# Altium footprint library Reg LDO.PcbLib: 29 footprints (part 2 of 2)
Each footprint in its own frame and in the unit in brackets; x right, y up, seen from the top. Pads: shape width x height; smd on the part's side, far side on the other; paste and mask are expansions set on the pad; w line width, h text height; cw(c..) or ccw(c..) is an arc to the next point about the centre after c.
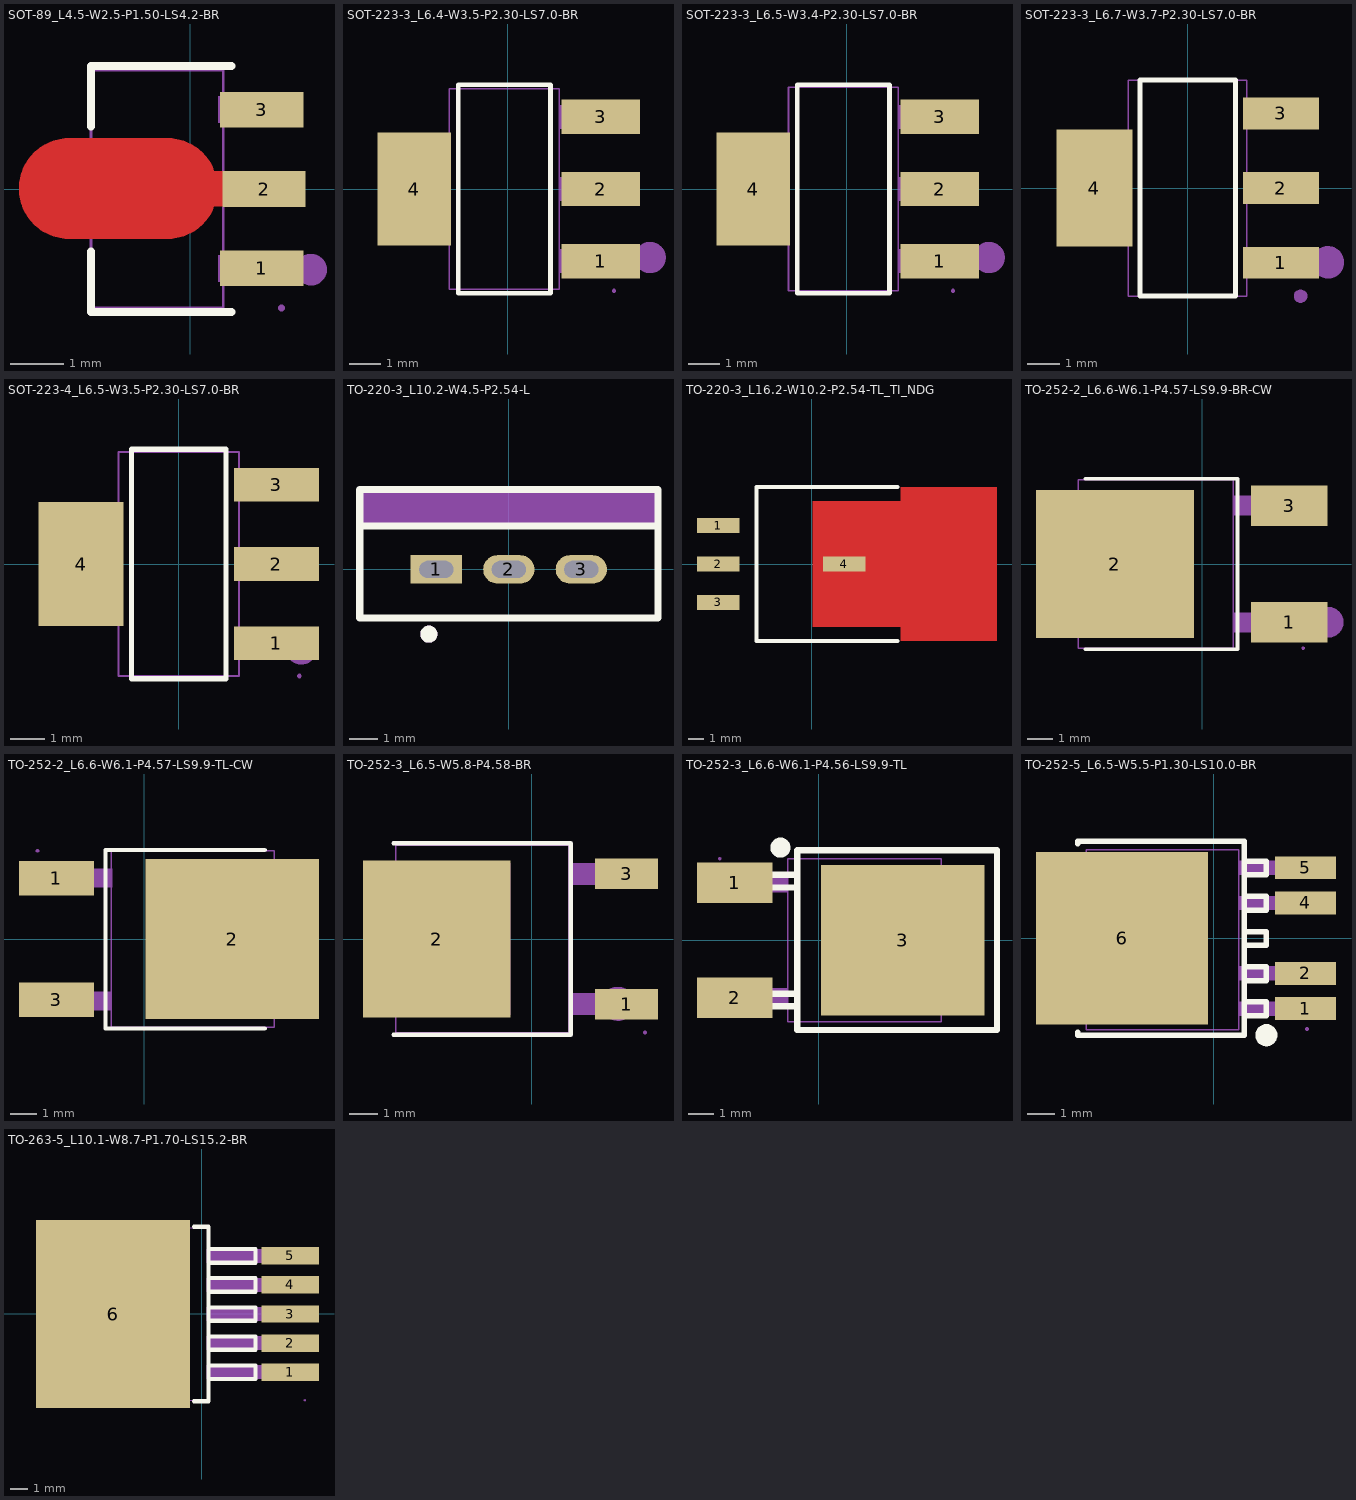
[diagram p1: the footprints below, top view; thin cyan lines are the x and y axes]

## SOT-89_L4.5-W2.5-P1.50-LS4.2-BR [mm]
pads (3):
  rect 1.575x0.672 smd paste+0 mask+0.051: 1(1.356,-1.5) 2(1.397,0) 3(1.356,1.5)
Top Layer:
  region: -2.283,0.959 -0.429,0.959 -0.385,0.958 -0.34,0.955 -0.296,0.949 -0.252,0.942 -0.208,0.933 -0.165,0.921 -0.123,0.908 -0.081,0.893 -0.04,0.875 0,0.856 0.04,0.835 0.078,0.812 0.115,0.788 0.151,0.761 0.185,0.733 0.219,0.704 0.251,0.673 0.281,0.64 0.31,0.606 0.337,0.571 0.362,0.534 0.386,0.497 0.408,0.458 0.428,0.418 0.447,0.339 2.144,0.339 2.144,-0.321 0.447,-0.321 0.428,-0.401 0.408,-0.44 0.386,-0.479 0.362,-0.517 0.337,-0.553 0.31,-0.588 0.281,-0.622 0.251,-0.655 0.219,-0.686 0.185,-0.716 0.151,-0.744 0.115,-0.77 0.078,-0.795 0.04,-0.818 0,-0.839 -0.04,-0.858 -0.081,-0.875 -0.123,-0.89 -0.165,-0.904 -0.208,-0.915 -0.252,-0.925 -0.296,-0.932 -0.34,-0.937 -0.385,-0.94 -0.429,-0.941 -2.283,-0.941 -2.328,-0.94 -2.372,-0.937 -2.416,-0.932 -2.46,-0.925 -2.504,-0.915 -2.547,-0.904 -2.589,-0.89 -2.631,-0.875 -2.672,-0.858 -2.713,-0.839 -2.752,-0.818 -2.79,-0.795 -2.827,-0.77 -2.863,-0.744 -2.898,-0.716 -2.931,-0.686 -2.963,-0.655 -2.993,-0.622 -3.022,-0.588 -3.049,-0.553 -3.075,-0.517 -3.098,-0.479 -3.12,-0.44 -3.141,-0.401 -3.159,-0.36 -3.175,-0.318 -3.189,-0.276 -3.202,-0.233 -3.212,-0.19 -3.22,-0.146 -3.227,-0.102 -3.231,-0.058 -3.233,-0.013 -3.233,0.031 -3.231,0.076 -3.227,0.12 -3.22,0.164 -3.212,0.208 -3.202,0.251 -3.189,0.294 -3.175,0.336 -3.159,0.377 -3.141,0.418 -3.12,0.458 -3.098,0.497 -3.075,0.534 -3.049,0.571 -3.022,0.606 -2.993,0.64 -2.963,0.673 -2.931,0.704 -2.898,0.733 -2.863,0.761 -2.827,0.788 -2.79,0.812 -2.752,0.835 -2.713,0.856 -2.672,0.875 -2.631,0.893 -2.589,0.908 -2.547,0.921 -2.504,0.933 -2.46,0.942 -2.416,0.949 -2.372,0.955 -2.328,0.958
Top Overlay:
  lines w0.152: -1.871,-1.177 -1.871,-2.326 0.781,-2.326 ; -1.871,1.177 -1.871,2.326 0.781,2.326
Mechanical 6:
  circle w0.3: c2.286,-1.524 r0.15
Mechanical 15:
  region: 0.529,1.75 1.729,1.75 1.729,1.25 0.529,1.25
  region: 0.529,-1.25 1.729,-1.25 1.729,-1.75 0.529,-1.75
  region: 0.439,-0.26 1.724,-0.26 1.724,0.26 0.439,0.26 -0.136,0.863 -1.796,0.863 -2.371,0.288 -2.371,-0.287 -1.796,-0.862 -0.136,-0.862
  region: 1.789,-2.25 1.789,-2.225 1.754,-2.19 1.704,-2.19 1.669,-2.225 1.669,-2.25 1.669,-2.275 1.704,-2.31 1.754,-2.31 1.789,-2.275 1.789,-2.25
  lines w0.051: -1.871,-2.25 0.629,-2.25 0.629,2.25 -1.871,2.25 -1.871,-2.25

## SOT-223-3_L6.4-W3.5-P2.30-LS7.0-BR [mm]
pads (4):
  rect 2.5x1.1 smd paste+0 mask+0.051: 1(2.97,-2.3) 2(2.97,0) 3(2.97,2.3)
  rect 2.34x3.6 smd paste+0 mask+0.051: 4(-2.97,0)
Top Overlay:
  lines w0.152: -1.571,-3.326 1.371,-3.326 1.371,3.326 -1.571,3.326 -1.571,-3.326
Mechanical 6:
  circle w0.5: c4.552,-2.188 r0.25
Mechanical 15:
  region: 1.64,1.925 1.64,2.675 2.66,2.675 2.66,1.925
  region: 2.65,1.925 2.65,2.675 3.4,2.675 3.4,1.925
  region: 1.64,-0.375 1.64,0.375 2.66,0.375 2.66,-0.375
  region: 2.65,-0.375 2.65,0.375 3.4,0.375 3.4,-0.375
  region: 1.64,-2.675 1.64,-1.925 2.66,-1.925 2.66,-2.675
  region: 2.65,-2.675 2.65,-1.925 3.4,-1.925 3.4,-2.675
  region: -2.86,-1.5 -2.86,1.5 -1.84,1.5 -1.84,-1.5
  region: -3.6,-1.5 -3.6,1.5 -2.85,1.5 -2.85,-1.5
  region: 3.46,-3.25 3.46,-3.225 3.425,-3.19 3.375,-3.19 3.34,-3.225 3.34,-3.25 3.34,-3.275 3.375,-3.31 3.425,-3.31 3.46,-3.275 3.46,-3.25
  lines w0.051: -1.854,-3.2 -1.854,3.2 1.646,3.2 1.646,-3.2 -1.854,-3.2

## SOT-223-3_L6.5-W3.4-P2.30-LS7.0-BR [mm]
pads (4):
  rect 2.5x1.1 smd paste+0 mask+0.051: 1(2.97,-2.3) 2(2.97,0) 3(2.97,2.3)
  rect 2.34x3.6 smd paste+0 mask+0.051: 4(-2.97,0)
Top Overlay:
  lines w0.152: -1.571,-3.326 1.371,-3.326 1.371,3.326 -1.571,3.326 -1.571,-3.326
Mechanical 6:
  circle w0.5: c4.552,-2.188 r0.25
Mechanical 15:
  region: -3.6,-1.5 -3.6,1.5 -2.85,1.5 -2.85,-1.5
  region: -2.86,-1.5 -2.86,1.5 -1.84,1.5 -1.84,-1.5
  region: 2.65,-2.675 2.65,-1.925 3.4,-1.925 3.4,-2.675
  region: 1.64,-2.675 1.64,-1.925 2.66,-1.925 2.66,-2.675
  region: 2.65,-0.375 2.65,0.375 3.4,0.375 3.4,-0.375
  region: 1.64,-0.375 1.64,0.375 2.66,0.375 2.66,-0.375
  region: 2.65,1.925 2.65,2.675 3.4,2.675 3.4,1.925
  region: 1.64,1.925 1.64,2.675 2.66,2.675 2.66,1.925
  region: 3.46,-3.25 3.46,-3.225 3.425,-3.19 3.375,-3.19 3.34,-3.225 3.34,-3.25 3.34,-3.275 3.375,-3.31 3.425,-3.31 3.46,-3.275 3.46,-3.25
  lines w0.051: -1.85,-3.25 1.65,-3.25 1.65,3.25 -1.85,3.25 -1.85,-3.25

## SOT-223-3_L6.7-W3.7-P2.30-LS7.0-BR [mm]
pads (4):
  rect 2.34x0.98 smd paste+0 mask+0.051: 1(2.87,-2.3) 2(2.87,0) 3(2.87,2.3)
  rect 2.34x3.6 smd paste+0 mask+0.051: 4(-2.87,0)
Top Overlay:
  lines w0.152: -1.471,-3.326 1.471,-3.326 1.471,3.326 -1.471,3.326 -1.471,-3.326
Mechanical 6:
  circle w0.5: c4.318,-2.286 r0.25
Mechanical 15:
  region: -3.475,-1.475 -3.475,1.475 -2.475,1.475 -2.475,-1.475
  region: -2.485,-1.475 -2.485,1.475 -1.815,1.475 -1.815,-1.475
  region: 2.475,-2.675 2.475,-1.925 3.475,-1.925 3.475,-2.675
  region: 1.815,-2.675 1.815,-1.925 2.485,-1.925 2.485,-2.675
  region: 2.475,-0.375 2.475,0.375 3.475,0.375 3.475,-0.375
  region: 1.815,-0.375 1.815,0.375 2.485,0.375 2.485,-0.375
  region: 2.475,1.925 2.475,2.675 3.475,2.675 3.475,1.925
  region: 1.815,1.925 1.815,2.675 2.485,2.675 2.485,1.925
  region: 3.675,-3.325 3.675,-3.285 3.645,-3.212 3.588,-3.156 3.515,-3.125 3.435,-3.125 3.362,-3.156 3.305,-3.212 3.275,-3.285 3.275,-3.325 3.275,-3.365 3.305,-3.438 3.362,-3.495 3.435,-3.525 3.515,-3.525 3.588,-3.495 3.645,-3.438 3.675,-3.365 3.675,-3.325
  lines w0.051: -1.825,-3.325 -1.825,3.325 1.825,3.325 1.825,-3.325 -1.825,-3.325

## SOT-223-4_L6.5-W3.5-P2.30-LS7.0-BR [mm]
pads (4):
  rect 2.47x0.98 smd paste+0 mask+0.051: 1(2.835,-2.3) 2(2.835,0) 3(2.835,2.3)
  rect 2.47x3.6 smd paste+0 mask+0.051: 4(-2.835,0)
Top Overlay:
  lines w0.152: -1.371,-3.326 -1.371,3.326 1.371,3.326 1.371,-3.326 -1.371,-3.326
Mechanical 6:
  circle w0.5: c3.556,-2.413 r0.25
Mechanical 15:
  region: 3.56,-3.25 3.56,-3.225 3.525,-3.19 3.475,-3.19 3.44,-3.225 3.44,-3.25 3.44,-3.275 3.475,-3.31 3.525,-3.31 3.56,-3.275 3.56,-3.25
  region: 2.55,-2.65 2.55,-1.95 3.5,-1.95 3.5,-2.65
  region: 1.74,-2.65 1.74,-1.95 2.56,-1.95 2.56,-2.65
  region: 2.55,-0.35 2.55,0.35 3.5,0.35 3.5,-0.35
  region: 1.74,-0.35 1.74,0.35 2.56,0.35 2.56,-0.35
  region: 2.55,1.95 2.55,2.65 3.5,2.65 3.5,1.95
  region: 1.74,1.95 1.74,2.65 2.56,2.65 2.56,1.95
  region: -2.55,-1.5 -2.55,1.5 -3.5,1.5 -3.5,-1.5
  region: -2.56,-1.5 -2.56,1.5 -1.74,1.5 -1.74,-1.5
  lines w0.051: -1.75,-3.25 -1.75,3.25 1.75,3.25 1.75,-3.25 -1.75,-3.25

## TO-220-3_L10.2-W4.5-P2.54-L [mm]
pads (3):
  rect 1.8x1 hole 0.6 slot 1.2 at 0 deg paste+0 mask+0.051: 1(-2.54,0)
  oval 1.8x1 hole 0.6 slot 1.2 at 0 deg paste+0 mask+0.051: 2(0,0) 3(2.54,0)
Top Overlay:
  circle w0.3: c-2.804,-2.269 r0.15
  lines w0.254: -5.1,1.52 5.1,1.52 ; 5.222,2.8 -5.227,2.8 -5.227,-1.7 5.227,-1.7 5.227,2.8
Mechanical 6:
  circle w0.3: c-2.804,-2.269 r0.15
  region: 5.227,2.8 5.227,1.52 -5.227,1.52 -5.227,2.8
Mechanical 15:
  region: -2.94,0.185 -2.14,0.185 -2.14,-0.185 -2.94,-0.185
  region: -0.4,0.185 0.4,0.185 0.4,-0.185 -0.4,-0.185
  region: 2.14,0.185 2.94,0.185 2.94,-0.185 2.14,-0.185
  region: -5.167,-1.7 -5.167,-1.675 -5.202,-1.64 -5.252,-1.64 -5.287,-1.675 -5.287,-1.7 -5.287,-1.725 -5.252,-1.76 -5.202,-1.76 -5.167,-1.725 -5.167,-1.7
  lines w0.051: -5.227,-1.7 -5.227,2.8 5.227,2.8 5.227,-1.7 -5.227,-1.7

## TO-220-3_L16.2-W10.2-P2.54-TL_TI_NDG [mm]
pads (4):
  rect 2.8x1 smd paste+0 mask+0.05: 1(-6.165,2.54) 2(-6.165,0) 3(-6.165,-2.54) 4(2.159,0)
Top Layer:
  region: 5.895,5.08 5.895,4.16 0.085,4.16 0.085,-4.16 5.895,-4.16 5.895,-5.08 12.245,-5.08 12.245,-4.16 12.245,4.16 12.245,5.08
Top Overlay:
  lines w0.254: 5.664,-5.08 -3.625,-5.08 -3.625,5.08 5.664,5.08

## TO-252-2_L6.6-W6.1-P4.57-LS9.9-BR-CW [mm]
pads (3):
  rect 3x1.6 smd paste+0 mask+0.051: 1(3.424,-2.29) 3(3.424,2.29)
  rect 6.2x5.8 smd paste+0 mask+0.051: 2(-3.424,0)
Top Overlay:
  lines w0.152: -4.585,-3.346 1.383,-3.346 1.383,3.346 -4.585,3.346
Mechanical 6:
  circle w0.6: c4.953,-2.286 r0.3
Mechanical 15:
  region: -4.954,2.505 -0.938,2.505 -0.938,-2.505 -4.954,-2.505 -5.954,-1.505 -5.954,1.505
  region: 2.371,1.91 2.371,2.67 3.961,2.67 3.961,1.91
  region: 1.211,1.91 1.211,2.67 2.381,2.67 2.381,1.91
  region: 2.371,-2.67 2.371,-1.91 3.961,-1.91 3.961,-2.67
  region: 1.211,-2.67 1.211,-1.91 2.381,-1.91 2.381,-2.67
  region: 4.021,-3.3 4.021,-3.275 3.986,-3.24 3.937,-3.24 3.901,-3.275 3.901,-3.3 3.901,-3.325 3.937,-3.36 3.986,-3.36 4.021,-3.325 4.021,-3.3
  lines w0.051: -4.874,-3.3 -4.874,3.3 1.221,3.3 1.221,-3.3 -4.874,-3.3

## TO-252-2_L6.6-W6.1-P4.57-LS9.9-TL-CW [mm]
pads (3):
  rect 2.8x1.3 smd paste+0 mask+0.051: 1(-3.292,2.273) 3(-3.292,-2.273)
  rect 6.5x6 smd paste+0 mask+0.051: 2(3.292,0)
Top Overlay:
  lines w0.152: 4.511,-3.353 -1.456,-3.353 -1.456,3.34 4.511,3.34
Mechanical 6:
  circle w0.6: c-3.962,2.286 r0.3
Mechanical 15:
  region: -2.448,1.93 -2.448,2.629 -1.198,2.629 -1.198,1.93
  region: -2.474,-2.667 -2.474,-1.968 -1.224,-1.968 -1.224,-2.667
  region: -3.998,1.93 -3.998,2.629 -2.408,2.629 -2.408,1.93
  region: -3.998,-2.667 -3.998,-1.968 -2.408,-1.968 -2.408,-2.667
  region: 0.727,-2.667 0.727,2.668 5.403,2.668 5.937,2.135 5.937,-2.133 5.403,-2.667
  region: -3.938,3.3 -3.938,3.325 -3.973,3.36 -4.023,3.36 -4.058,3.325 -4.058,3.3 -4.058,3.275 -4.023,3.24 -3.973,3.24 -3.938,3.275 -3.938,3.3
  lines w0.051: -1.231,-3.3 4.869,-3.3 4.869,3.3 -1.231,3.3 -1.231,-3.3

## TO-252-3_L6.5-W5.8-P4.58-BR [mm]
pads (3):
  rect 2.218x1.064 smd paste+0 mask+0.051: 1(3.349,-2.3) 3(3.349,2.3)
  rect 5.204x5.554 smd paste+0 mask+0.051: 2(-3.349,0)
Top Overlay:
  lines w0.152: -4.873,-3.376 1.38,-3.376 1.38,3.376 -4.873,3.376
Mechanical 6:
  circle w0.6: c3.048,-2.286 r0.3
Mechanical 15:
  region: 4.064,-3.3 4.064,-3.275 4.028,-3.24 3.979,-3.24 3.944,-3.275 3.944,-3.3 3.944,-3.325 3.979,-3.36 4.028,-3.36 4.064,-3.325 4.064,-3.3
  region: 4.003,-1.92 4.003,-2.68 2.533,-2.68 2.533,-1.92
  region: 2.544,-1.92 2.544,-2.68 1.293,-2.68 1.293,-1.92
  region: 4.003,2.68 4.003,1.92 2.533,1.92 2.533,2.68
  region: 2.544,2.68 2.544,1.92 1.293,1.92 1.293,2.68
  region: -0.747,2.67 -0.747,-2.67 -4.962,-2.67 -5.497,-2.136 -5.497,2.136 -4.962,2.67
  lines w0.051: -4.797,-3.3 1.304,-3.3 1.304,3.3 -4.797,3.3 -4.797,-3.3

## TO-252-3_L6.6-W6.1-P4.56-LS9.9-TL [mm]
pads (3):
  rect 3x1.6 smd paste+0 mask+0.05: 1(-3.343,2.285) 2(-3.343,-2.285)
  rect 6.5x6 smd paste+0 mask+0.05: 3(3.343,0)
Top Overlay:
  lines w0.254: -0.856,2.1 -2.156,2.1 -2.156,2.6 -0.856,2.6 ; -0.852,-2.623 -2.152,-2.623 -2.152,-2.122 -0.852,-2.122 ; -0.856,-3.573 -0.856,3.573 7.094,3.573 7.094,-3.573 -0.856,-3.573
  lines w0.4: -1.525,3.483 cw(c-1.524,3.683) -1.523,3.483
Mechanical 6:
  circle w0.254: c-3.683,2.54 r0.127
Mechanical 15:
  region: -3.882,3.25 -3.882,3.275 -3.917,3.31 -3.967,3.31 -4.002,3.275 -4.002,3.25 -4.002,3.225 -3.967,3.19 -3.917,3.19 -3.882,3.225 -3.882,3.25
  region: -2.342,-1.915 -2.342,-2.665 -3.942,-2.665 -3.942,-1.915
  region: -1.212,-1.915 -1.212,-2.665 -2.352,-2.665 -2.352,-1.915
  region: -2.342,2.665 -2.342,1.915 -3.942,1.915 -3.942,2.665
  region: -1.212,2.665 -1.212,1.915 -2.352,1.915 -2.352,2.665
  region: 5.958,-2.7 0.358,-2.7 0.358,2.7 5.958,2.7
  lines w0.051: -1.222,-3.25 4.878,-3.25 4.878,3.25 -1.222,3.25 -1.222,-3.25

## TO-252-5_L6.5-W5.5-P1.30-LS10.0-BR [mil]
pads (5):
  rect 86.61x32.5 smd paste+0 mask+2: 1(130.2,-100) 2(130.2,-50) 4(130.2,50) 5(130.2,100)
  rect 244.5x244.5 smd paste+0 mask+2: 6(-130.2,0)
Top Overlay:
  lines w7.9: -193,-133.9 -193,-137.8 43.2,-137.8 43.2,137.8 -193,137.8 -193,133.9 ; 47.2,-110.2 74.7,-110.2 74.7,-90.6 47.2,-90.6 ; 47.2,-60.2 74.7,-60.2 74.7,-40.6 47.2,-40.6 ; 47.2,-10.2 74.7,-10.2 74.7,9.4 47.2,9.4 ; 47.2,39.8 74.7,39.8 74.7,59.4 47.2,59.4 ; 47.2,89.8 74.7,89.8 74.7,109.4 47.2,109.4
  lines w15.7: 74.6,-145.7 cw(c74.65,-137.8) 74.7,-145.7
Mechanical 6:
  circle w10: c153.22,-100.63 r5
Mechanical 15:
  region: -51.46,100.39 -51.46,-100.39 -240.44,-100.39 -240.44,100.39
  region: 35.17,90.16 35.17,109.84 94.23,109.84 94.23,90.16
  region: 35.17,40.16 35.17,59.84 94.23,59.84 94.23,40.16
  region: 35.17,-59.84 35.17,-40.16 94.23,-40.16 94.23,-59.84
  region: 133.49,109.84 133.49,90.16 94.11,90.16 94.11,109.84
  region: 133.49,59.84 133.49,40.16 94.11,40.16 94.11,59.84
  region: 133.49,-40.16 133.49,-59.84 94.11,-59.84 94.11,-40.16
  region: 35.17,-109.84 35.17,-90.16 94.23,-90.16 94.23,-109.84
  region: 133.49,-90.16 133.49,-109.84 94.11,-109.84 94.11,-90.16
  region: 134.77,-128.98 134.77,-128.01 133.38,-126.62 131.43,-126.62 130.04,-128.01 130.04,-128.98 130.04,-129.96 131.43,-131.35 133.38,-131.35 134.77,-129.96 134.77,-128.98
  lines w2: -181.31,-130.16 -181.31,125.74 35.23,125.74 35.23,-130.16 -181.31,-130.16

## TO-263-5_L10.1-W8.7-P1.70-LS15.2-BR [mm]
pads (6):
  rect 3.359x1.02 smd paste+0 mask+0.051: 1(5.183,-3.4) 2(5.183,-1.7) 3(5.183,0) 4(5.183,1.7) 5(5.183,3.4)
  rect 9x11 smd paste+0 mask+0.051: 6(-5.183,0)
Top Overlay:
  lines w0.254: -0.452,-5.1 0.4,-5.1 0.4,5.1 -0.452,5.1 ; 0.4,-2.997 3.149,-3.016 3.149,-3.801 0.401,-3.801 ; 0.4,-1.297 3.149,-1.316 3.149,-2.101 0.401,-2.101 ; 0.4,0.403 3.149,0.384 3.149,-0.401 0.401,-0.401 ; 0.4,2.103 3.149,2.084 3.149,1.299 0.401,1.299 ; 0.4,3.803 3.149,3.784 3.149,2.999 0.401,2.999
Mechanical 6:
  circle w0.4: c6.35,-3.429 r0.2
  circle w0.4: c6.35,-3.429 r0.2
Mechanical 15:
  region: 6.1,-5.05 6.1,-5.025 6.065,-4.99 6.016,-4.99 5.981,-5.025 5.981,-5.05 5.981,-5.075 6.016,-5.11 6.065,-5.11 6.1,-5.075 6.1,-5.05
  region: -9.168,5.05 -1.198,5.05 -1.198,-5.05 -9.168,-5.05
  region: 3.64,-3 6.04,-3 6.04,-3.8 3.64,-3.8
  region: 3.64,-1.3 6.04,-1.3 6.04,-2.1 3.64,-2.1
  region: 3.64,0.4 6.04,0.4 6.04,-0.4 3.64,-0.4
  region: 3.64,2.1 6.04,2.1 6.04,1.3 3.64,1.3
  region: 3.64,3.8 6.04,3.8 6.04,3 3.64,3
  region: 3.65,3.8 3.65,3 0.3,3 0.3,3.8
  region: 3.65,2.1 3.65,1.3 0.3,1.3 0.3,2.1
  region: 3.65,0.4 3.65,-0.4 0.3,-0.4 0.3,0.4
  region: 3.65,-1.3 3.65,-2.1 0.3,-2.1 0.3,-1.3
  region: 3.65,-3 3.65,-3.8 0.3,-3.8 0.3,-3
  lines w0.051: -8.35,-5.05 -8.35,5.05 0.35,5.05 0.35,-5.05 -8.35,-5.05